# Altium schematic symbol library DT13-6P.SchLib: 1 symbol
Pins are listed as number, name and electrical type; pins without a type are passive.

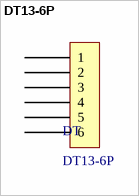
[diagram p0: symbol DT13-6P]

## DT13-6P
designator DT
footprint DT13-6P
pins: 1, 2, 3, 4, 5, 6